# EAGLE library part MAX1300 (library ARVP_07-15-13)
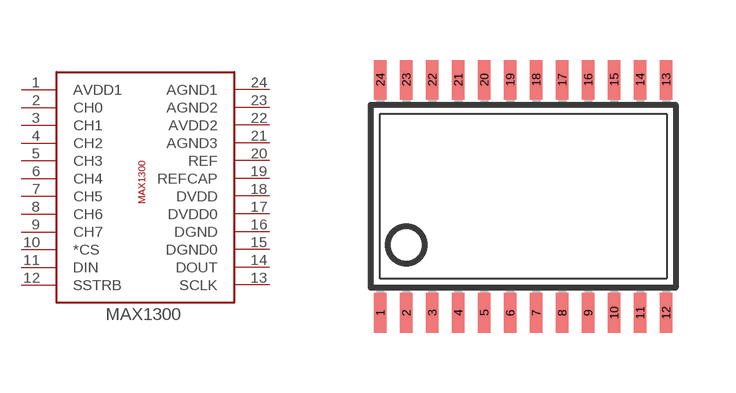
[diagram p9: symbol with the pads of MAX1300; footprint MAX1300]

Designator prefix -

## MAX1300  [MAX1300]
1  AVDD1  pwr
2  CH0
3  CH1
4  CH2
5  CH3
6  CH4
7  CH5
8  CH6
9  CH7
10  *CS
11  DIN
12  SSTRB
13  SCLK
14  DOUT
15  DGND0  pwr
16  DGND  pwr
17  DVDD0  pwr
18  DVDD  pwr
19  REFCAP
20  REF
21  AGND3  pwr
22  AVDD2  pwr
23  AGND2  pwr
24  AGND1  pwr

## Footprint MAX1300 (pad centres in mm)
smd 0.305 x 0.991: 1 -3.575,-2.918; 2 -2.925,-2.918; 3 -2.275,-2.918; 4 -1.625,-2.918; 5 -0.975,-2.918; 6 -0.325,-2.918; 7 0.325,-2.918; 8 0.975,-2.918; 9 1.625,-2.918; 10 2.275,-2.918; 11 2.925,-2.918; 12 3.575,-2.918; 13 3.575,2.918; 14 2.925,2.918; 15 2.275,2.918; 16 1.625,2.918; 17 0.975,2.918; 18 0.325,2.918; 19 -0.325,2.918; 20 -0.975,2.918; 21 -1.625,2.918; 22 -2.275,2.918; 23 -2.925,2.918; 24 -3.575,2.918